# Altium footprint library N_ChannelZXM61N03FTA.PcbLib: 1 footprints
Each footprint in its own frame and in the unit in brackets; x right, y up, seen from the top. Pads: shape width x height; smd on the part's side, far side on the other; paste and mask are expansions set on the pad; w line width, h text height; cw(c..) or ccw(c..) is an arc to the next point about the centre after c.
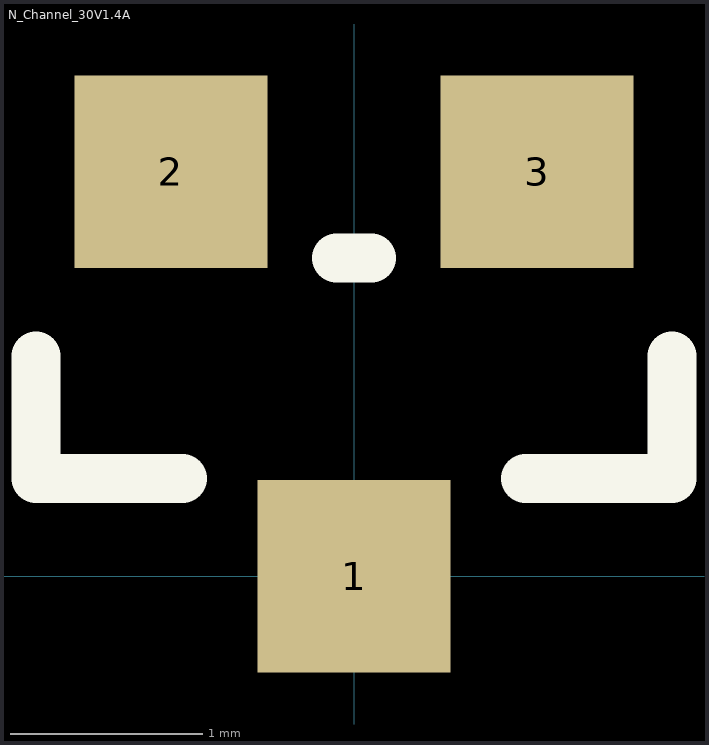
[diagram p0: the footprint, top view; thin cyan lines are the x and y axes]

## N_Channel_30V1.4A [mm]
height 1.1
pads (3):
  rect 1x1 smd mask+0.2: 1(0,0) 2(-0.95,2.1) 3(0.95,2.1)
Top Overlay:
  lines w0.254: -1.651,1.143 -1.651,0.508 -0.889,0.508 ; -0.09,1.651 0.09,1.651 ; 0.889,0.508 1.651,0.508 1.651,1.143